# Altium footprint library card_design.PcbLib: 12 footprints
Each footprint in its own frame and in the unit in brackets; x right, y up, seen from the top. Pads: shape width x height; smd on the part's side, far side on the other; paste and mask are expansions set on the pad; w line width, h text height; cw(c..) or ccw(c..) is an arc to the next point about the centre after c.
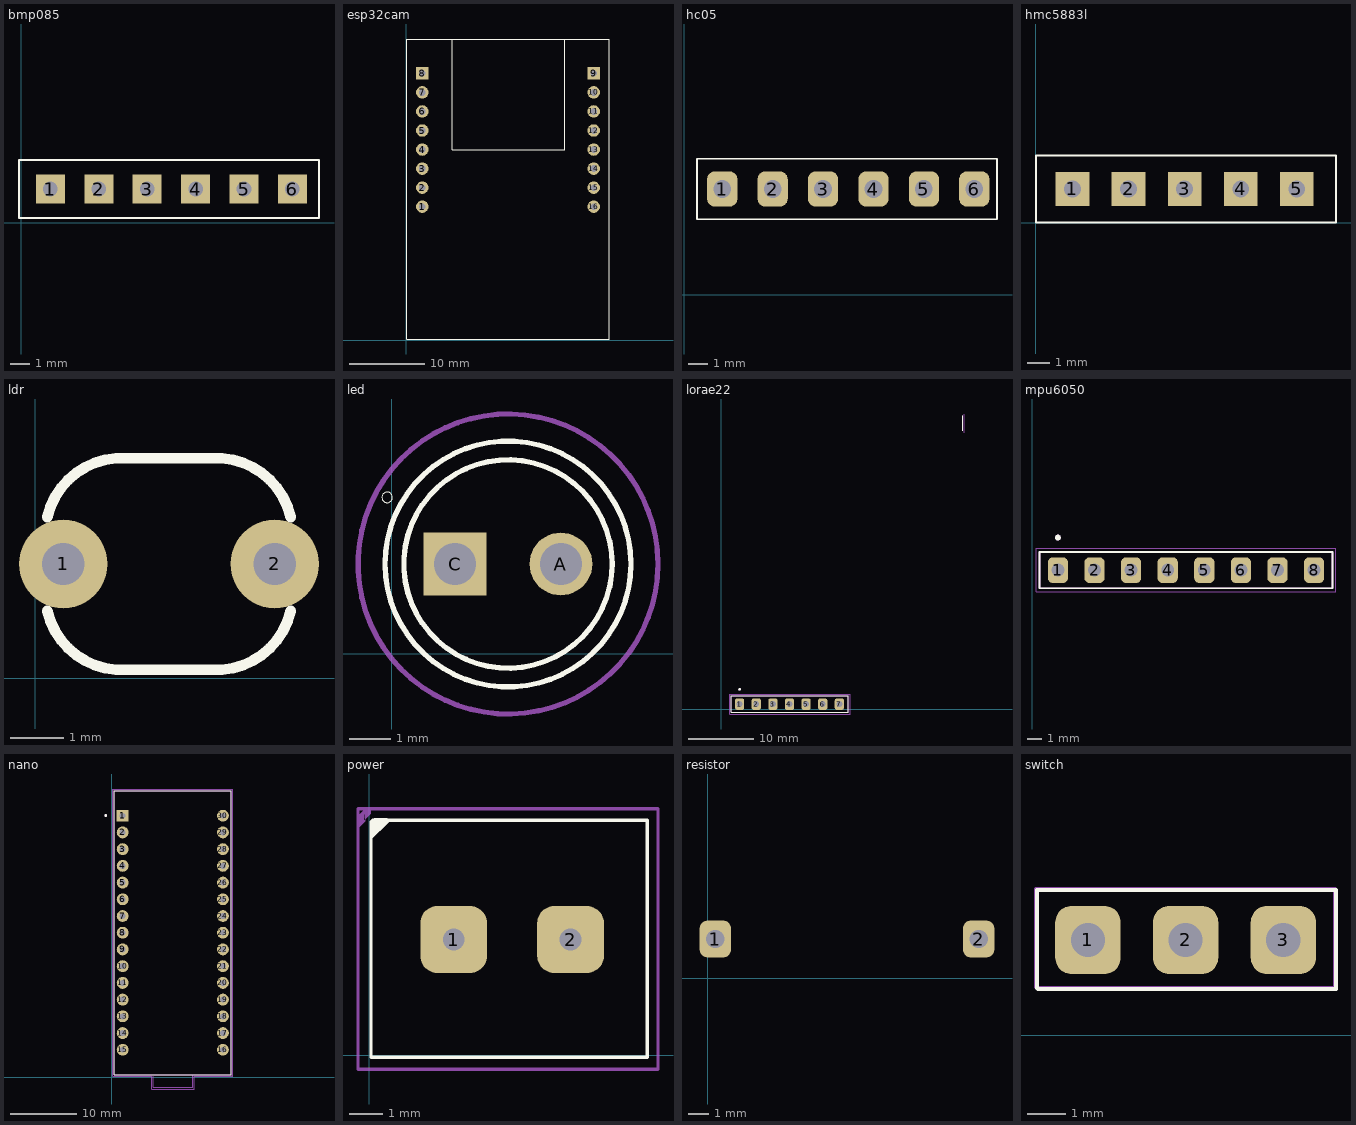
[diagram p0: the footprints below, top view; thin cyan lines are the x and y axes]

## bmp085 [mil]
pads (6):
  rect 60x60 hole 30: 1(60,70) 2(160,70) 3(260,70) 4(360,70) 5(460,70) 6(560,70)
Top Overlay:
  lines w3.94: -5,10 615,10 615,130 -5,130 -5,120 -5,10
3D body "Adafruit BMP388 Breakout.step": height 557.87, standoff 100.99, extent -200,-25 650,625
3D body "User Library-Header_Fem_1X6.STEP": height 334.65, standoff -125.98, extent 0.16,25 619.85,125

## esp32cam [mm]
pads (16):
  round 1.665 hole 0.9: 1(2.159,17.78) 2(2.159,20.32) 3(2.159,22.86) 4(2.159,25.4) 5(2.159,27.94) 6(2.159,30.48) 7(2.159,33.02) 10(25.019,33.02) 11(25.019,30.48) 12(25.019,27.94) 13(25.019,25.4) 14(25.019,22.86) 15(25.019,20.32) 16(25.019,17.78)
  rect 1.665x1.665 / inner round 1.665 / far side rect 1.665x1.665 hole 0.9: 8(2.159,35.56) 9(25.019,35.56)
Top Overlay:
  lines w0.1: 6.159,40.14 6.159,25.4 21.159,25.4 21.159,40.14 ; 0.089,0.14 0.089,40.14 27.089,40.14 27.089,0.14 0.089,0.14
Mechanical 13:
  text "CAM" at 13.589,26.78 h1.27
3D body "esp32cam.STEP": height 17.21, standoff 0.01, extent 0.37,0.386 27.57,40.386

## hc05 [mil]
pads (6):
  rrect50% 60x70 hole 35: 1(75,210) 2(175,210) 3(275,210) 4(375,210) 5(475,210) 6(575,210)
Top Overlay:
  lines w3.94: 25,150 25,245 25,270 620,270 620,150 25,150
3D body "HC05.SLDPRT": height 1408.35, standoff -191.06, extent 5.04,0 634.96,223.43

## hmc5883l [mil]
pads (5):
  rect 60x60 hole 30: 1(65,60) 2(165,60) 3(265,60) 4(365,60) 5(465,60)
Top Overlay:
  lines w3.94: 0,0 535,0 535,120 0,120 0,110 0,0
3D body "User Library-Header_Fem_1X6.STEP": height 334.65, standoff -125.98, extent 5.16,15 624.85,115
3D body "GY-271 HMC5883L Triple 3 Axis Digital Compass.step": height 462.99, standoff 348.82, extent 39.57,34.25 610.43,565.75

## ldr [mil]
pads (2):
  round 66 hole 31.5: 1(21,85) 2(178.48,85)
Top Overlay:
  lines w8: 9.08,50.01 ccw(c64.26,62.75) 60.31,6.26 ; 9.08,119.98 cw(c64.26,107.24) 60.31,163.74 ; 60.37,6.26 139.11,6.26 ; 60.37,163.74 139.11,163.74 ; 139.17,6.26 ccw(c135.22,62.76) 190.4,50.02 ; 139.17,163.74 cw(c135.22,107.25) 190.4,119.99
3D body "light sensor.SLDPRT": height 82.68, standoff -98.43, extent 2.57,1.26 199.43,158.74

## led [mil]
pads (2):
  round 59.37 hole 39.37: A(160,85)
  rect 59.37x59.37 hole 39.37: C(60,85)
Top Overlay:
  circle w0: c-4.17,147.99 r5
  circle w5: c110,85 r98.43
  circle w5: c110,85 r116.14
Mechanical 15:
  circle w5: c110,85 r141.73
3D body "everlight-5MM-LED-GREEN.STEP": height 316.4, standoff -312.25, extent 7.72,-2.28 222.28,230

## lorae22 [mil]
pads (7):
  rrect50% 55.43x70 hole 35: 1(110,30) 2(210,30) 3(310,30) 4(410,30) 5(510,30) 6(610,30) 7(710,30)
Top Overlay:
  circle w7.87: c110,118.98 r3.94
  lines w5: 1452.13,1673.94 1452.13,1766.06 ; 60,-19.61 765,-19.61 765,79.61 60,79.61 60,-19.61
Mechanical 13:
  circle w7.87: c110,118.98 r3.94
  lines w5: 1452.13,1673.94 1452.13,1766.06 ; 60,-19.61 765,-19.61 765,5.2 765,54.8 765,79.61 60,79.61 60,-19.61
Mechanical 15:
  lines w1.97: 1461.97,1664.09 1461.97,1775.91 ; 50.16,-29.45 775,-29.45 775,89.45 50.16,89.45 50.16,-29.45
3D body "E32-TTL-100 module without ant.STEP": height 236.22, standoff -336.22, extent 1.61,-5 828.39,1915.47

## mpu6050 [mil]
pads (8):
  rrect50% 55.43x70 hole 35: 1(70,592) 2(170,592) 3(270,592) 4(370,592) 5(470,592) 6(570,592) 7(670,592) 8(770,592)
Top Overlay:
  circle w7.87: c70,680.98 r3.94
  lines w5: 20,542.39 20,641.61 820,641.61 820,542.39 20,542.39
Mechanical 13:
  circle w7.87: c70,680.98 r3.94
  lines w5: 20,542.39 20,641.61 820,641.61 820,542.39 20,542.39
Mechanical 15:
  lines w1.97: 10.16,532.55 10.16,651.45 829.84,651.45 829.84,532.55 10.16,532.55
3D body "ITG-MPU.STEP": height 334.22, standoff -128.38, extent 1.77,2.39 848.23,652

## nano [mm]
pads (30):
  rect 1.8x1.8 / inner round 1.8 / far side rect 1.8x1.8 hole 0.9: 1(1.651,39.751)
  round 1.8 hole 0.9: 2(1.651,37.211) 3(1.651,34.671) 4(1.651,32.131) 5(1.651,29.591) 6(1.651,27.051) 7(1.651,24.511) 8(1.651,21.971) 9(1.651,19.431) 10(1.651,16.891) 11(1.651,14.351) 12(1.651,11.811) 13(1.651,9.271) 14(1.651,6.731) 15(1.651,4.191) 16(16.891,4.191) 17(16.891,6.731) 18(16.891,9.271) 19(16.891,11.811) 20(16.891,14.351) 21(16.891,16.891) 22(16.891,19.431) 23(16.891,21.971) 24(16.891,24.511) 25(16.891,27.051) 26(16.891,29.591) 27(16.891,32.131) 28(16.891,34.671) 29(16.891,37.211) 30(16.891,39.751)
Top Overlay:
  circle w0.2: c-0.929,39.771 r0.1
  lines w0.127: 0.381,0.381 18.161,0.381 18.161,43.561 0.381,43.561 0.381,0.381
Mechanical 13:
  circle w0.2: c-0.929,39.771 r0.1
  lines w0.127: 6.301,0.381 12.271,0.381 ; 6.301,0.381 0.381,0.381 0.381,43.561 18.161,43.561 18.161,0.381 12.271,0.381 ; 6.301,0.381 6.301,-1.524 12.271,-1.524 12.271,0.381
Mechanical 15:
  lines w0.05: 0.131,0.131 0.131,43.811 18.411,43.811 18.411,0.131 12.521,0.131 12.521,-1.774 6.051,-1.774 6.051,0.131 0.131,0.131
3D body "step_temp.STEP": height 12.6, standoff -6, extent 0.271,0.371 18.271,45.371

## power [mm]
pads (2):
  rrect50% 2x2 hole 0.65: 1(2.521,3.471) 2(6.021,3.471)
Top Overlay:
  region: 0.587,7.003 0.015,6.43 0.015,6.965 0.148,7.098 0.528,7.098
  lines w0.1: 0.046,6.996 0.046,-0.054 8.321,-0.054 8.321,7.046 0.096,7.046
Mechanical 3:
  region: -0.128,7.381 -0.343,7.165 -0.343,7.382 -0.342,7.381 -0.128,7.381 -0.128,7.017 -0.342,6.803 -0.342,7.381 -0.128,7.381 -0.121,7.374 0.038,7.374 0.038,7.23 -0.164,7.028
  lines w0.1: -0.342,-0.401 -0.332,-0.41 8.638,-0.41 8.638,7.381 -0.128,7.381 -0.342,7.381 -0.342,-0.401
3D body "User Library-JST-XH-2_5mm-2.STEP": height 2.95, standoff -6.35, extent 0.67,-3.937 8.17,3.703

## resistor [mil]
pads (2):
  rrect50% 60x70 hole 35: 1(15,75) 2(515,75)
3D body "User Library-Res50-Axial 0_5W-330R.STEP": height 369.09, standoff 0, extent 0.24,1.19 529.77,148.82

## switch [mil]
pads (3):
  rrect50% 66.93x70 hole 35 mask+1.97: 1(229.37,97.28) 2(329.37,97.28) 3(429.37,97.28)
Top Overlay:
  lines w3.94: 177.2,48.07 177.2,148.46 483.31,148.46 483.31,47.09 178.19,47.09 177.2,48.07
Mechanical 3:
  lines w3.94: 176.22,49.06 177.2,48.07 482.32,48.07 482.32,149.45 176.22,149.45 176.22,49.06
3D body "Sliding Switch.step": height 295.28, standoff -492.13, extent 2.4,0 927.6,295.28